# Altium schematic symbol library SCH.SchLib: 5 symbols
Pins are listed as number, name and electrical type; pins without a type are passive.

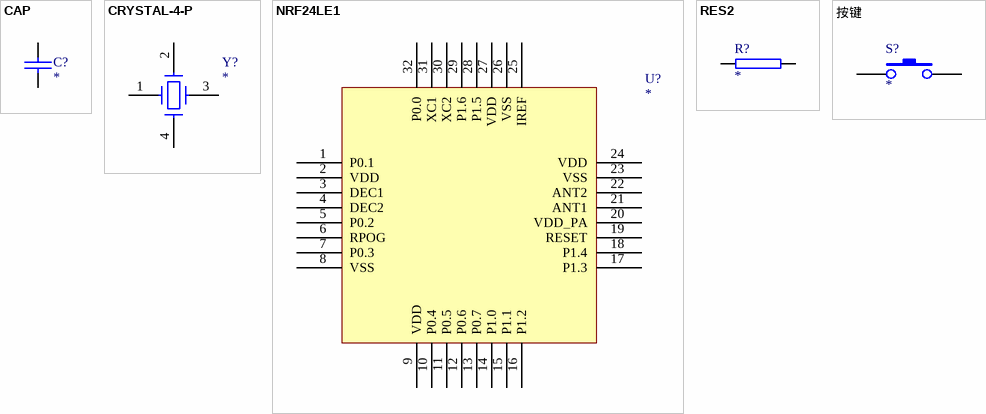
[diagram p0: symbols CAP to 按键]

## CAP
designator C?
Capacitor
pins: 1, 2

## CRYSTAL-4-P
designator Y?
pins: 1, 2, 3, 4

## NRF24LE1
designator U?
pins: 1 P0.1, 2 VDD, 3 DEC1, 4 DEC2, 5 P0.2, 6 RPOG, 7 P0.3, 8 VSS, 9 VDD, 10 P0.4, 11 P0.5, 12 P0.6, 13 P0.7, 14 P1.0, 15 P1.1, 16 P1.2, 17 P1.3, 18 P1.4, 19 RESET, 20 VDD_PA, 21 ANT1, 22 ANT2, 23 VSS, 24 VDD, 25 IREF, 26 VSS, 27 VDD, 28 P1.5, 29 P1.6, 30 XC2, 31 XC1, 32 P0.0

## RES2
designator R?
pins: 1, 2

## 按键
designator S?
pins: 1, 2